# Altium schematic symbol library ESD7008MUTAG.SchLib: 1 symbol
Pins are listed as number, name and electrical type; pins without a type are passive.

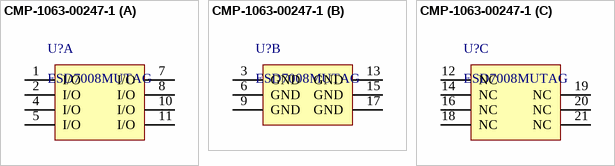
[diagram p0: symbol CMP-1063-00247-1]

## CMP-1063-00247-1
designator U?, comment ESD7008MUTAG
Transient Voltage Suppressor, Low Capacitance ESD Protection for High Speed Data, 18-Pin UDFN, Pb-Free, Tape and Reel; Manufacturer: On Semiconductor; VRWM Max (V): 5; V(BR) Min (V): 5.5; Direction: Bidirectional; Number of Lines: 8; IR Max (uA): 1; ComponentLink1Description: Manufacturer URL; PackageReference: UDFN-18-517BV; PackageDescription: 18-Pin Small Outline No-Lead, Body 5.5 x 1.5 mm; PartNumber: ESD7008MUTAG; ComponentLink3URL: http://www.onsemi.cn/pub_link/Collateral/517BV.PDF; PackageVersion: Rev. A, 12/2012; ComponentLink2URL: http://www.onsemi.cn/pub_link/Collateral/ESD7008-D.PDF; DatasheetVersion: Rev. 4; ComponentLink2Description: Datasheet; RoHS: Pb-Free; Packing: Tape and Reel; Mounting Technology: Surface Mount; ComponentLink1URL: http://www.onsemi.com/; ComponentLink3Description: Package Specification
footprint ONSC-UDFN-18-517BV_V (SON, 18-Leads, Body 5.5x1.5mm)
part A pins: 1 I/O, 2 I/O, 4 I/O, 5 I/O, 7 I/O, 8 I/O, 10 I/O, 11 I/O
part B pins: 3 GND (power), 6 GND (power), 9 GND (power), 13 GND (power), 15 GND (power), 17 GND (power)
part C pins: 12 NC, 14 NC, 16 NC, 18 NC, 19 NC, 20 NC, 21 NC